# Altium schematic symbol library IPP015N04N G.SchLib: 1 symbol
Pins are listed as number, name and electrical type; pins without a type are passive.

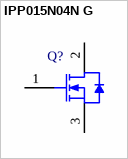
[diagram p0: symbol IPP015N04N G]

## IPP015N04N G
designator Q?
N-Channel OptiMOS 3 Power-Transistor, 40 V VDS, 120 A ID, -55 to 175 degC, PG-TO220-3-1, Tube, Green; Manufacturer: Infineon; PartNumber: IPP015N04N G; Green: TRUE; ID (max): 120 A; IDpuls (max): 400 A; Polarity: N; Ptot (max): 250 W; QG: 188 nC; RDS (on) (max): 1.5 mOhm; Rth: 0.6 K/W; RthJA (max): 62 K/W; VDS (max): 40 V; VGS(th) (max): 4 V; VGS(th) (min): 2 V; DatasheetVersion: Rev. 2.2; PackageVersion: Rev. 05, 08/2007; PackageReference: PG-TO220-3-1; PackageDescription: 3-Pin Plastic (Green) Transistor Single Outline Package, 10.03 x 8.98 mm Body, 2.54 mm Pitch; Supplier 1: Digi-Key; Supplier Part Number 1: IPP015N04N G-ND; Supplier 2: Farnell; Supplier Part Number 2: 1775611; Supplier 3: Newark; Supplier Part Number 3: 60R2726; Supplier 4: Mouser; Supplier Part Number 4: 726-IPP015N04NG; Halogen-free: TRUE; Packing: Tube; RthJC (max): 0.6 K/W; Mounting Technology: Through Hole; ComponentLink1Description: Manufacturer URL; ComponentLink1URL: http://www.infineon.com/; ComponentLink2Description: Datasheet; ComponentLink2URL: http://www.infineon.com/dgdl/IPB015N04N_rev2.2.pdf?folderId=db3a304313b8b5a60113cee8763b02d7&fileId=db3a30432313ff5e01239efadeca7112; ComponentLink3Description: Package Specification; ComponentLink3URL: http://www.infineon.com/dgdl/IPP028N08N3_Rev1%5B1%5D.0.pdf?folderId=db3a304313b8b5a60113cee8763b02d7&fileId=db3a30432313ff5e0123a3c08e7326b5
footprint INF-PG-TO220-3-1_A_V (FM, 3-Leads, Body 10.03x8.98mm, Pitch 2.54mm)
pins: 1 GATE, 2 DRAIN, 3 SOURCE